# EAGLE library part WE-FB_LT35XX/LT3748_EFD25_750311889 (library Wurth_Elektronik_EMC_COMPONENTS_rev16c)
WE-FB Flyback Transformer LT35xx / LT3748 Characteristics Standard transformers for various output voltages currents available Easy design of custom power supply due to standard circuit and change of transformers and two components for feedback loop Isolation voltage up to 2.5 kV Applications Isolated power design Sensor interfaces Isolated telecom converters Power over Ethernet <http://katalog.we-online.de/media/images/eisos/UtFB_LT_MID_pf2.jpg> Details see: http://katalog.we-online.de/en/pbs/WE-FB_Linear? Updated 2015-04-03 2015 (C) Wurth Elektronik
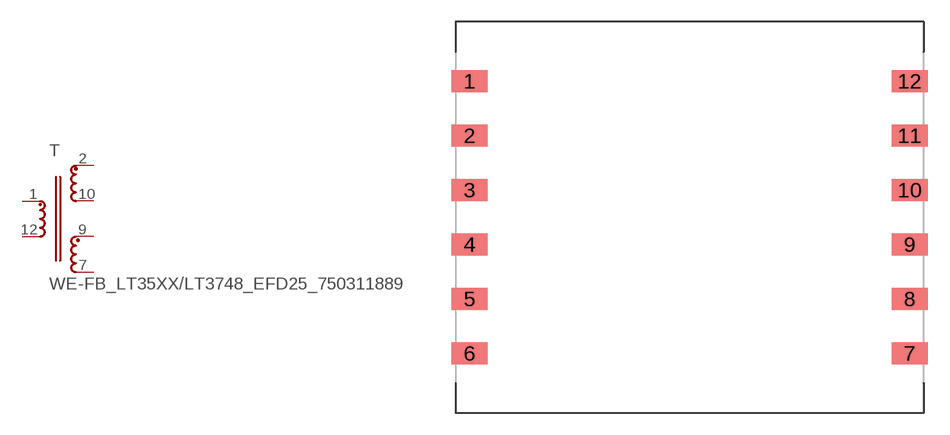
[diagram p99: symbol with the pads of WE-FB_EFD25_DIMENSION1; footprint WE-FB_EFD25_DIMENSION1]

Designator prefix T

## WE-FB_LT35XX/LT3748_EFD25_750311889  [WE-FB_EFD25_DIMENSION1]
1  1  pas
2  2  pas
7  5  pas
9  4  pas
10  3  pas
12  6  pas

## Footprint WE-FB_EFD25_DIMENSION1 (pad centres in mm)
smd 2.5 x 1.52: 1 -15.19,9.4; 2 -15.19,5.64; 3 -15.19,1.88; 4 -15.19,-1.88; 5 -15.19,-5.64; 6 -15.19,-9.4; 7 15.19,-9.4; 8 15.19,-5.64; 9 15.19,-1.88; 10 15.19,1.88; 11 15.19,5.64; 12 15.19,9.4